# EAGLE library part IV-16 (library 0-nixies-russian)
Цифра Выводы 0 3,4,5,6,8,9 1 3,4 2 3,5,7,8,9 3 3,4,5,7,8 4 3,4,6,7 5 4,5,6,7,8 6 4,5,6,7,8,9 7 3,4,5 8 3,4,5,6,7,8,9 9 3,4,5,6,7,8
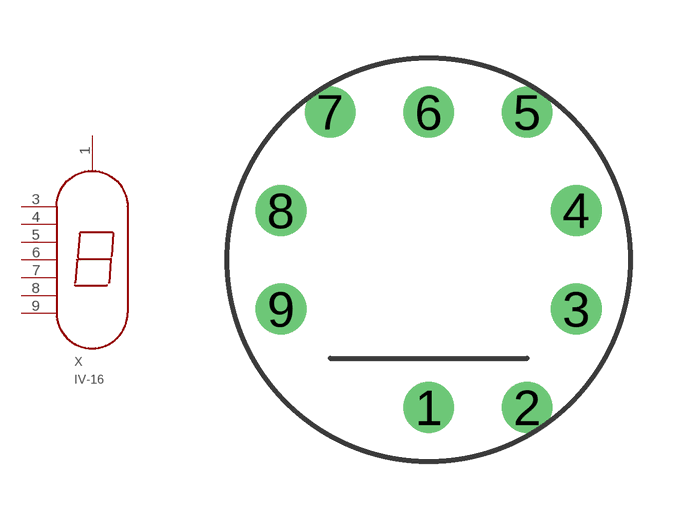
[diagram p4: symbol with the pads of IV-16; footprint IV-16]

Designator prefix X

## IV-16  [IV-16]
1  1
3  2
4  3
5  4
6  5
7  6
8  7
9  8

## Footprint IV-16 (pad centres in mm)
drill 0.8: 1 0,-3.81; 2 2.54,-3.81; 3 3.81,-1.27; 4 3.81,1.27; 5 2.54,3.81; 6 0,3.81; 7 -2.54,3.81; 8 -3.81,1.27; 9 -3.81,-1.27